# EAGLE library part 2P4T (library mb3_switches)
2P-4T Rotary
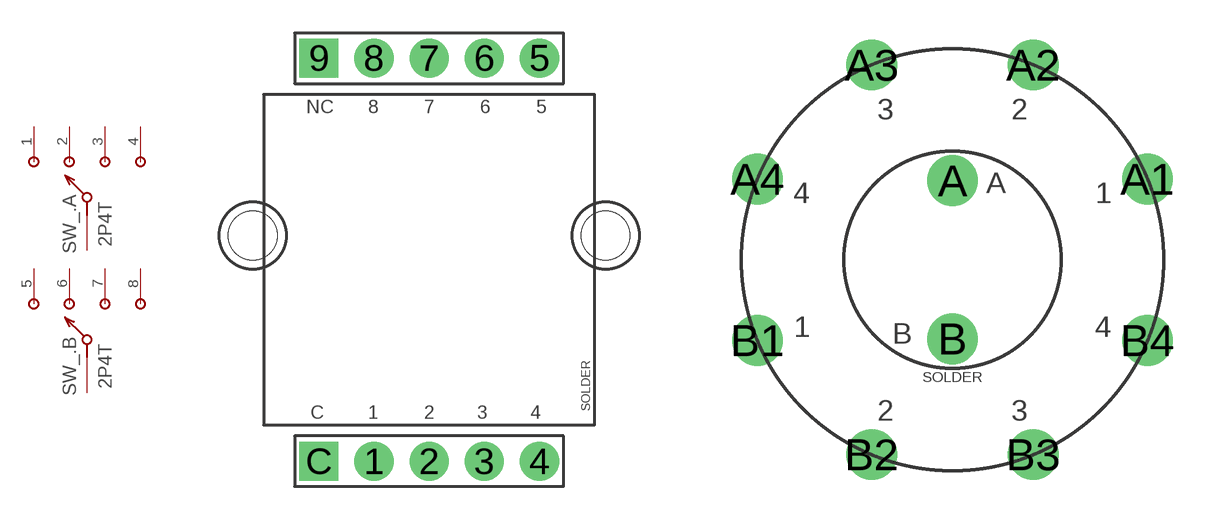
[diagram p2: symbol with the pads of SR1712F; footprints SR1712F, 2P4T.MINI]

Designator prefix SW_; gates .A=1P4T .B=1P4T

## 2P4T  [SR1712F]
1  .A:1
2  .A:2
3  .A:3
4  .A:4
5  .B:1
6  .B:2
7  .B:3
8  .B:4
9  .B:A
C  .A:A

## 2P4T.MINI  [2P4T.MINI]
A  .A:A
A1  .A:1
A2  .A:2
A3  .A:3
A4  .A:4
B  .B:A
B1  .B:1
B2  .B:2
B3  .B:3
B4  .B:4

## Footprint SR1712F (pad centres in mm)
1P-8T Alpha SR1712F-0108 http://www.mouser.com/ProductDetail/Alpha-Taiwan/SR1712F-0108-20F0A-N9-N-027/?qs=sGAEpiMZZMvNbjZ2WlReYnXCw5Ewy7NZqvxA5I%2fimkc%3d 2P-4T Alpha SR1712F-0204 http://www.mouser.com/ProductDetail/Alpha-Taiwan/SR1712F-0204-20F0A-N9-N-027/?qs=sGAEpiMZZMvNbjZ2WlReYnXCw5Ewy7NZBfCUQUEQcxM%3d
drill 1 pad 1.778: 1 -2.5,-9.15; 2 0,-9.15; 3 2.5,-9.15; 4 5,-9.15; 5 5,9.15; 6 2.5,9.15; 7 0,9.15; 8 -2.5,9.15
drill 1 pad 1.778 square: 9 -5,9.15; C -5,-9.15
hole 2.2 at 8,1.1
hole 2.2 at -8,1.1

## Footprint 2P4T.MINI (pad centres in mm)
Mini http://smallbear-electronics.mybigcommerce.com/rotary-switch-miniature-2p4t/
drill 1.1 pad 1.93: A 0,3; A1 7.391,3.061; A2 3.061,7.391; A3 -3.061,7.391; A4 -7.391,3.061; B 0,-3; B1 -7.391,-3.061; B2 -3.061,-7.391; B3 3.061,-7.391; B4 7.391,-3.061